# Altium schematic symbol library Generic 1206 Resistor.SchLib: 1 symbol
Pins are listed as number, name and electrical type; pins without a type are passive.

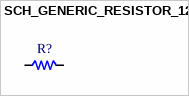
[diagram p0: symbol SCH_GENERIC_RESISTOR_1206]

## SCH_GENERIC_RESISTOR_1206
designator R?  (value not drawn)
Generic SMD resistor 1206; Resistance: *
footprint PCB_GENERIC_SMD_1206 (Generic 1206 SMD footprint)
pins: 1, 2